# Altium schematic symbol library XTAL,32.768kHz,12.5pF,SMD.Schlib: 1 symbol
Pins are listed as number, name and electrical type; pins without a type are passive.

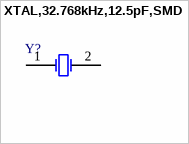
[diagram p0: symbol XTAL,32.768kHz,12.5pF,SMD]

## XTAL,32.768kHz,12.5pF,SMD
designator Y?
pins: 1 OSC1, 2 GND